# EAGLE library part DORJI_DRF4463F (library beacon_malzemeler)
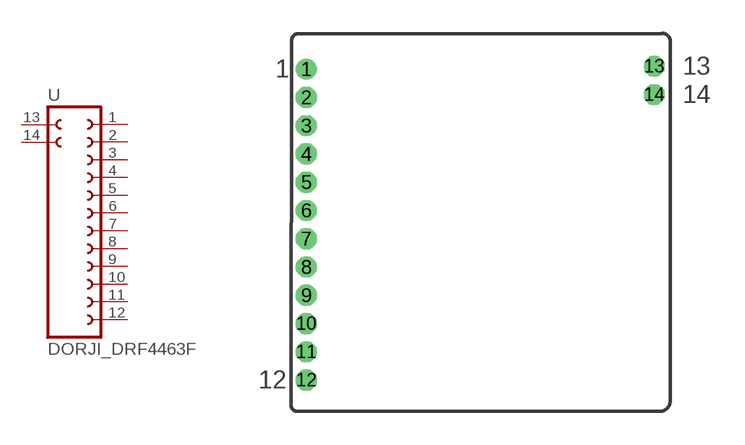
[diagram p0: symbol with the pads of DORJI_DRF4463F; footprint DORJI_DRF4463F]

Designator prefix -

## DORJI_DRF4463F  [DORJI_DRF4463F]
1  1  pas
2  2  pas
3  3  pas
4  4  pas
5  5  pas
6  6  pas
7  7  pas
8  8  pas
9  9  pas
10  10  pas
11  11  pas
12  12  pas
13  13  pas
14  14  pas

## Footprint DORJI_DRF4463F (pad centres in mm)
drill 0.4 pad 0.8: 1 -8.255,7.112
drill 0.4 pad 0.8 octagon: 2 -8.255,5.842; 3 -8.255,4.572; 4 -8.255,3.302; 5 -8.255,2.032; 6 -8.255,0.762; 7 -8.255,-0.508; 8 -8.255,-1.778; 9 -8.255,-3.048; 10 -8.255,-4.318; 11 -8.255,-5.588; 12 -8.255,-6.858; 13 7.366,7.239; 14 7.366,5.969